# EAGLE library part STM32F446_LQFP64 (library stm32f466re)
STM32F446_LQFP64 edit this description Auto generated by make-symbol-device-package-bsdl.ulp Rev. 44 Source: STM32F446_LQFP64.bsd
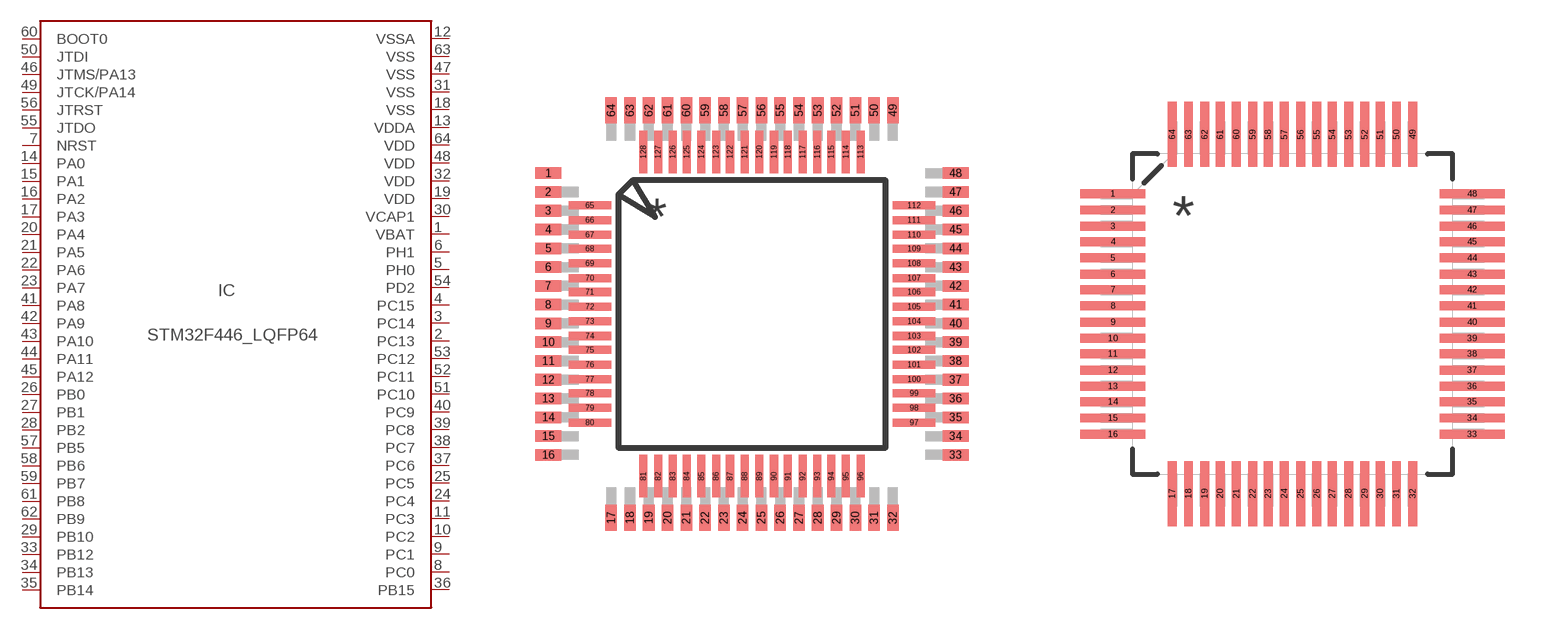
[diagram p0: symbol with the pads of LQFP64_PACKAGE; footprints LQFP64_PACKAGE, LQFP64]

Designator prefix IC

## STM32F446_LQFP64  [LQFP64_PACKAGE]
1  VBAT  pas
2  PC13
3  PC14
4  PC15
5  PH0
6  PH1
7  NRST  in
8  PC0
9  PC1
10  PC2
11  PC3
12  VSSA  pwr
13  VDDA  pwr
14  PA0
15  PA1
16  PA2
17  PA3
18  VSS  pwr
19  VDD  pwr
20  PA4
21  PA5
22  PA6
23  PA7
24  PC4
25  PC5
26  PB0
27  PB1
28  PB2
29  PB10
30  VCAP1  pas
31  VSS  pwr
32  VDD  pwr
33  PB12
34  PB13
35  PB14
36  PB15
37  PC6
38  PC7
39  PC8
40  PC9
41  PA8
42  PA9
43  PA10
44  PA11
45  PA12
46  JTMS/PA13  in
47  VSS  pwr
48  VDD  pwr
49  JTCK/PA14  in
50  JTDI  in
51  PC10
52  PC11
53  PC12
54  PD2
55  JTDO  out
56  JTRST  in
57  PB5
58  PB6
59  PB7
60  BOOT0  in
61  PB8
62  PB9
63  VSS  pwr
64  VDD  pwr

## STM32F446_LQFP64LQFP64  [LQFP64]
Pads as for LQFP64_PACKAGE

## Footprint LQFP64_PACKAGE (pad centres in mm)
LQFP64_PACKAGE Auto generated by make-symbol-device-package-bsdl.ulp Rev. 44
smd 0.9 x 0.4: 1 -7.05,4.875; 2 -7.05,4.225; 3 -7.05,3.575; 4 -7.05,2.925; 5 -7.05,2.275; 6 -7.05,1.625; 7 -7.05,0.975; 8 -7.05,0.325; 9 -7.05,-0.325; 10 -7.05,-0.975; 11 -7.05,-1.625; 12 -7.05,-2.275; 13 -7.05,-2.925; 14 -7.05,-3.575; 15 -7.05,-4.225; 16 -7.05,-4.875; 33 7.05,-4.875; 34 7.05,-4.225; 35 7.05,-3.575; 36 7.05,-2.925; 37 7.05,-2.275; 38 7.05,-1.625; 39 7.05,-0.975; 40 7.05,-0.325; 41 7.05,0.325; 42 7.05,0.975; 43 7.05,1.625; 44 7.05,2.275; 45 7.05,2.925; 46 7.05,3.575; 47 7.05,4.225; 48 7.05,4.875
smd 0.4 x 0.9: 17 -4.875,-7.05; 18 -4.225,-7.05; 19 -3.575,-7.05; 20 -2.925,-7.05; 21 -2.275,-7.05; 22 -1.625,-7.05; 23 -0.975,-7.05; 24 -0.325,-7.05; 25 0.325,-7.05; 26 0.975,-7.05; 27 1.625,-7.05; 28 2.275,-7.05; 29 2.925,-7.05; 30 3.575,-7.05; 31 4.225,-7.05; 32 4.875,-7.05; 49 4.875,7.05; 50 4.225,7.05; 51 3.575,7.05; 52 2.925,7.05; 53 2.275,7.05; 54 1.625,7.05; 55 0.975,7.05; 56 0.325,7.05; 57 -0.325,7.05; 58 -0.975,7.05; 59 -1.625,7.05; 60 -2.275,7.05; 61 -2.925,7.05; 62 -3.575,7.05; 63 -4.225,7.05; 64 -4.875,7.05
smd 1.473 x 0.279: 65 -5.613,3.759; 66 -5.613,3.251; 67 -5.613,2.743; 68 -5.613,2.261; 69 -5.613,1.753; 70 -5.613,1.245; 71 -5.613,0.762; 72 -5.613,0.254; 73 -5.613,-0.254; 74 -5.613,-0.762; 75 -5.613,-1.245; 76 -5.613,-1.753; 77 -5.613,-2.261; 78 -5.613,-2.743; 79 -5.613,-3.251; 80 -5.613,-3.759; 97 5.613,-3.759; 98 5.613,-3.251; 99 5.613,-2.743; 100 5.613,-2.261; 101 5.613,-1.753; 102 5.613,-1.245; 103 5.613,-0.762; 104 5.613,-0.254; 105 5.613,0.254; 106 5.613,0.762; 107 5.613,1.245; 108 5.613,1.753; 109 5.613,2.261; 110 5.613,2.743; 111 5.613,3.251; 112 5.613,3.759
smd 0.279 x 1.473: 81 -3.759,-5.613; 82 -3.251,-5.613; 83 -2.743,-5.613; 84 -2.261,-5.613; 85 -1.753,-5.613; 86 -1.245,-5.613; 87 -0.762,-5.613; 88 -0.254,-5.613; 89 0.254,-5.613; 90 0.762,-5.613; 91 1.245,-5.613; 92 1.753,-5.613; 93 2.261,-5.613; 94 2.743,-5.613; 95 3.251,-5.613; 96 3.759,-5.613; 113 3.759,5.613; 114 3.251,5.613; 115 2.743,5.613; 116 2.261,5.613; 117 1.753,5.613; 118 1.245,5.613; 119 0.762,5.613; 120 0.254,5.613; 121 -0.254,5.613; 122 -0.762,5.613; 123 -1.245,5.613; 124 -1.753,5.613; 125 -2.261,5.613; 126 -2.743,5.613; 127 -3.251,5.613; 128 -3.759,5.613

## Footprint LQFP64 (pad centres in mm)
smd 2.032 x 0.279: 1 -5.613,3.759; 2 -5.613,3.251; 3 -5.613,2.743; 4 -5.613,2.261; 5 -5.613,1.753; 6 -5.613,1.245; 7 -5.613,0.762; 8 -5.613,0.254; 9 -5.613,-0.254; 10 -5.613,-0.762; 11 -5.613,-1.245; 12 -5.613,-1.753; 13 -5.613,-2.261; 14 -5.613,-2.743; 15 -5.613,-3.251; 16 -5.613,-3.759; 33 5.613,-3.759; 34 5.613,-3.251; 35 5.613,-2.743; 36 5.613,-2.261; 37 5.613,-1.753; 38 5.613,-1.245; 39 5.613,-0.762; 40 5.613,-0.254; 41 5.613,0.254; 42 5.613,0.762; 43 5.613,1.245; 44 5.613,1.753; 45 5.613,2.261; 46 5.613,2.743; 47 5.613,3.251; 48 5.613,3.759
smd 0.279 x 2.032: 17 -3.759,-5.613; 18 -3.251,-5.613; 19 -2.743,-5.613; 20 -2.261,-5.613; 21 -1.753,-5.613; 22 -1.245,-5.613; 23 -0.762,-5.613; 24 -0.254,-5.613; 25 0.254,-5.613; 26 0.762,-5.613; 27 1.245,-5.613; 28 1.753,-5.613; 29 2.261,-5.613; 30 2.743,-5.613; 31 3.251,-5.613; 32 3.759,-5.613; 49 3.759,5.613; 50 3.251,5.613; 51 2.743,5.613; 52 2.261,5.613; 53 1.753,5.613; 54 1.245,5.613; 55 0.762,5.613; 56 0.254,5.613; 57 -0.254,5.613; 58 -0.762,5.613; 59 -1.245,5.613; 60 -1.753,5.613; 61 -2.261,5.613; 62 -2.743,5.613; 63 -3.251,5.613; 64 -3.759,5.613